# Altium footprint library MSOP-8-EP.PcbLib: 1 footprints
Each footprint in its own frame and in the unit in brackets; x right, y up, seen from the top. Pads: shape width x height; smd on the part's side, far side on the other; paste and mask are expansions set on the pad; w line width, h text height; cw(c..) or ccw(c..) is an arc to the next point about the centre after c.
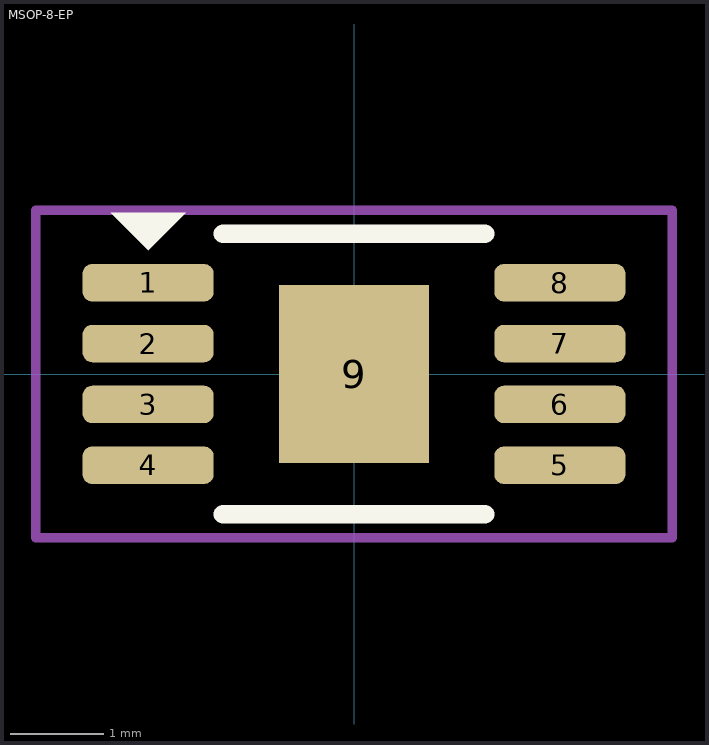
[diagram p0: the footprint, top view; thin cyan lines are the x and y axes]

## MSOP-8-EP [mm]
pads (9):
  rrect50% 1.4x0.4 smd: 1(-2.2,0.975) 2(-2.2,0.325) 3(-2.2,-0.325) 4(-2.2,-0.975) 5(2.2,-0.975) 6(2.2,-0.325) 7(2.2,0.325) 8(2.2,0.975)
  rect 1.6x1.9 smd: 9(0,0)
Top Overlay:
  region: -2.6,1.725 -1.8,1.725 -2.2,1.325
  lines w0.2: -1.4,-1.5 1.4,-1.5 ; -1.4,1.5 1.4,1.5
Top Courtyard:
  lines w0.1: -3.4,-1.75 3.4,-1.75 3.4,1.75 -3.4,1.75 -3.4,-1.75
3D body "TPA0211DGN.STEP": height 1.1, standoff 0, extent -2.45,-1.5 2.45,1.5